# Altium schematic symbol library Diodes.SchLib: 8 symbols
Pins are listed as number, name and electrical type; pins without a type are passive.

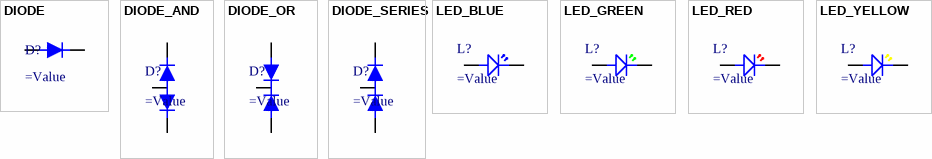
[diagram p0: symbols DIODE to LED_YELLOW]

## DIODE
designator D?
pins: 1, 2

## DIODE_AND
designator D?
DIODE DUAL COMMON ANODE
pins: 1, 2, 3

## DIODE_OR
designator D?
DIODE DUAL COMMON CATHODE
pins: 1, 2, 3

## DIODE_SERIES
designator D?
DIODE DUAL SERIES
pins: 1 A, 2 K, 3 C

## LED_BLUE
designator L?
pins: 1, 2

## LED_GREEN
designator L?
pins: 1, 2

## LED_RED
designator L?
pins: 1, 2

## LED_YELLOW
designator L?
pins: 1, 2